# Altium footprint library CAPRR2250W100L2700T1050H1900.PcbLib: 1 footprints
Each footprint in its own frame and in the unit in brackets; x right, y up, seen from the top. Pads: shape width x height; smd on the part's side, far side on the other; paste and mask are expansions set on the pad; w line width, h text height; cw(c..) or ccw(c..) is an arc to the next point about the centre after c.
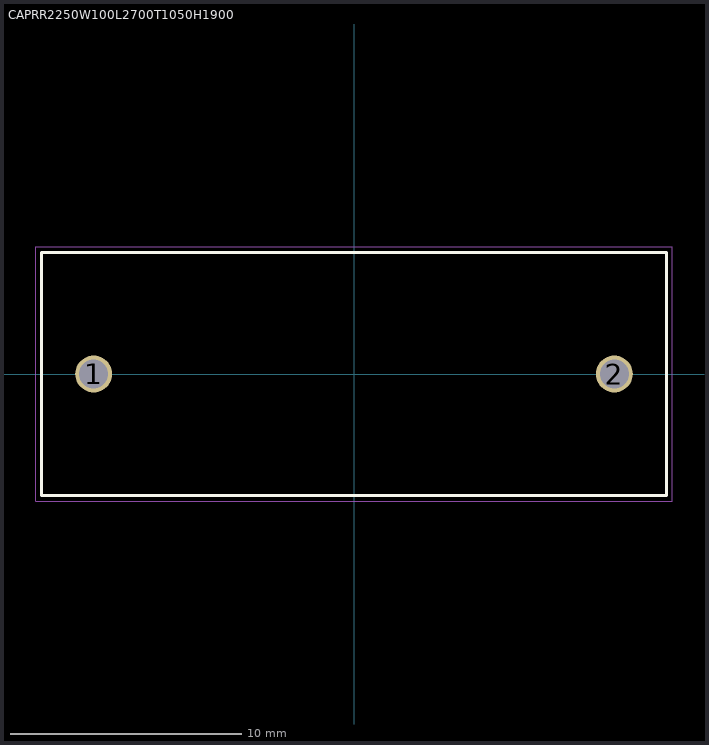
[diagram p0: the footprint, top view; thin cyan lines are the x and y axes]

## CAPRR2250W100L2700T1050H1900 [mm]
pads (2):
  round 1.6 hole 1.25: 1(-11.25,0) 2(11.25,0)
Top Overlay:
  lines w0.127: -13.5,-5.25 13.5,-5.25 13.5,5.25 -13.5,5.25 -13.5,-5.25
Mechanical 13:
  lines w0.127: -13.5,-5.25 -13.5,5.25 13.5,5.25 13.5,-5.25 -13.5,-5.25
Mechanical 15:
  lines w0.05: -13.75,-5.5 -13.75,5.5 13.75,5.5 13.75,-5.5 -13.75,-5.5
3D body "step_temp.STEP": height 19, standoff -20, extent -13.5,-5.25 13.5,5.25